# EAGLE library part IM880A-L (library Octanis1)
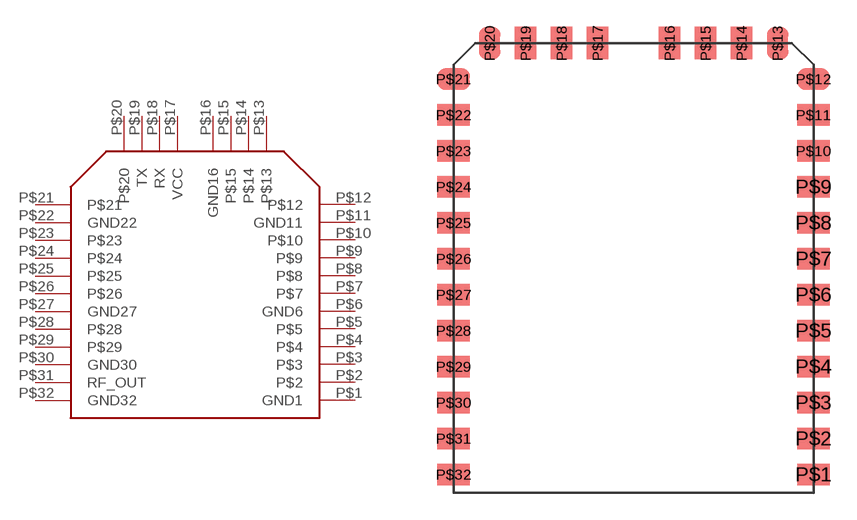
[diagram p2: symbol with the pads of IM880A-L; footprint IM880A-L]

Designator prefix -

## IM880A-L  [IM880A-L]
P$1  GND1
P$2  P$2
P$3  P$3
P$4  P$4
P$5  P$5
P$6  GND6
P$7  P$7
P$8  P$8
P$9  P$9
P$10  P$10
P$11  GND11
P$12  P$12
P$13  P$13
P$14  P$14
P$15  P$15
P$16  GND16
P$17  VCC
P$18  RX
P$19  TX
P$20  P$20
P$21  P$21
P$22  GND22
P$23  P$23
P$24  P$24
P$25  P$25
P$26  P$26
P$27  GND27
P$28  P$28
P$29  P$29
P$30  GND30
P$31  RF_OUT
P$32  GND32

## Footprint IM880A-L (pad centres in mm)
smd 1.8 x 1.2: P$1 20,1; P$2 20,3; P$3 20,5; P$4 20,7; P$5 20,9; P$6 20,11; P$7 20,13; P$8 20,15; P$9 20,17; P$10 20,19; P$11 20,21; P$12 20,23; P$21 0,23; P$22 0,21; P$23 0,19; P$24 0,17; P$25 0,15; P$26 0,13; P$27 0,11; P$28 0,9; P$29 0,7; P$30 0,5; P$31 0,3; P$32 0,1
smd 1.2 x 1.8: P$13 18,25; P$14 16,25; P$15 14,25; P$16 12,25; P$17 8,25; P$18 6,25; P$19 4,25; P$20 2,25